# Altium integrated library NSC Legacy.IntLib: 687 symbols (part 5 of 17)
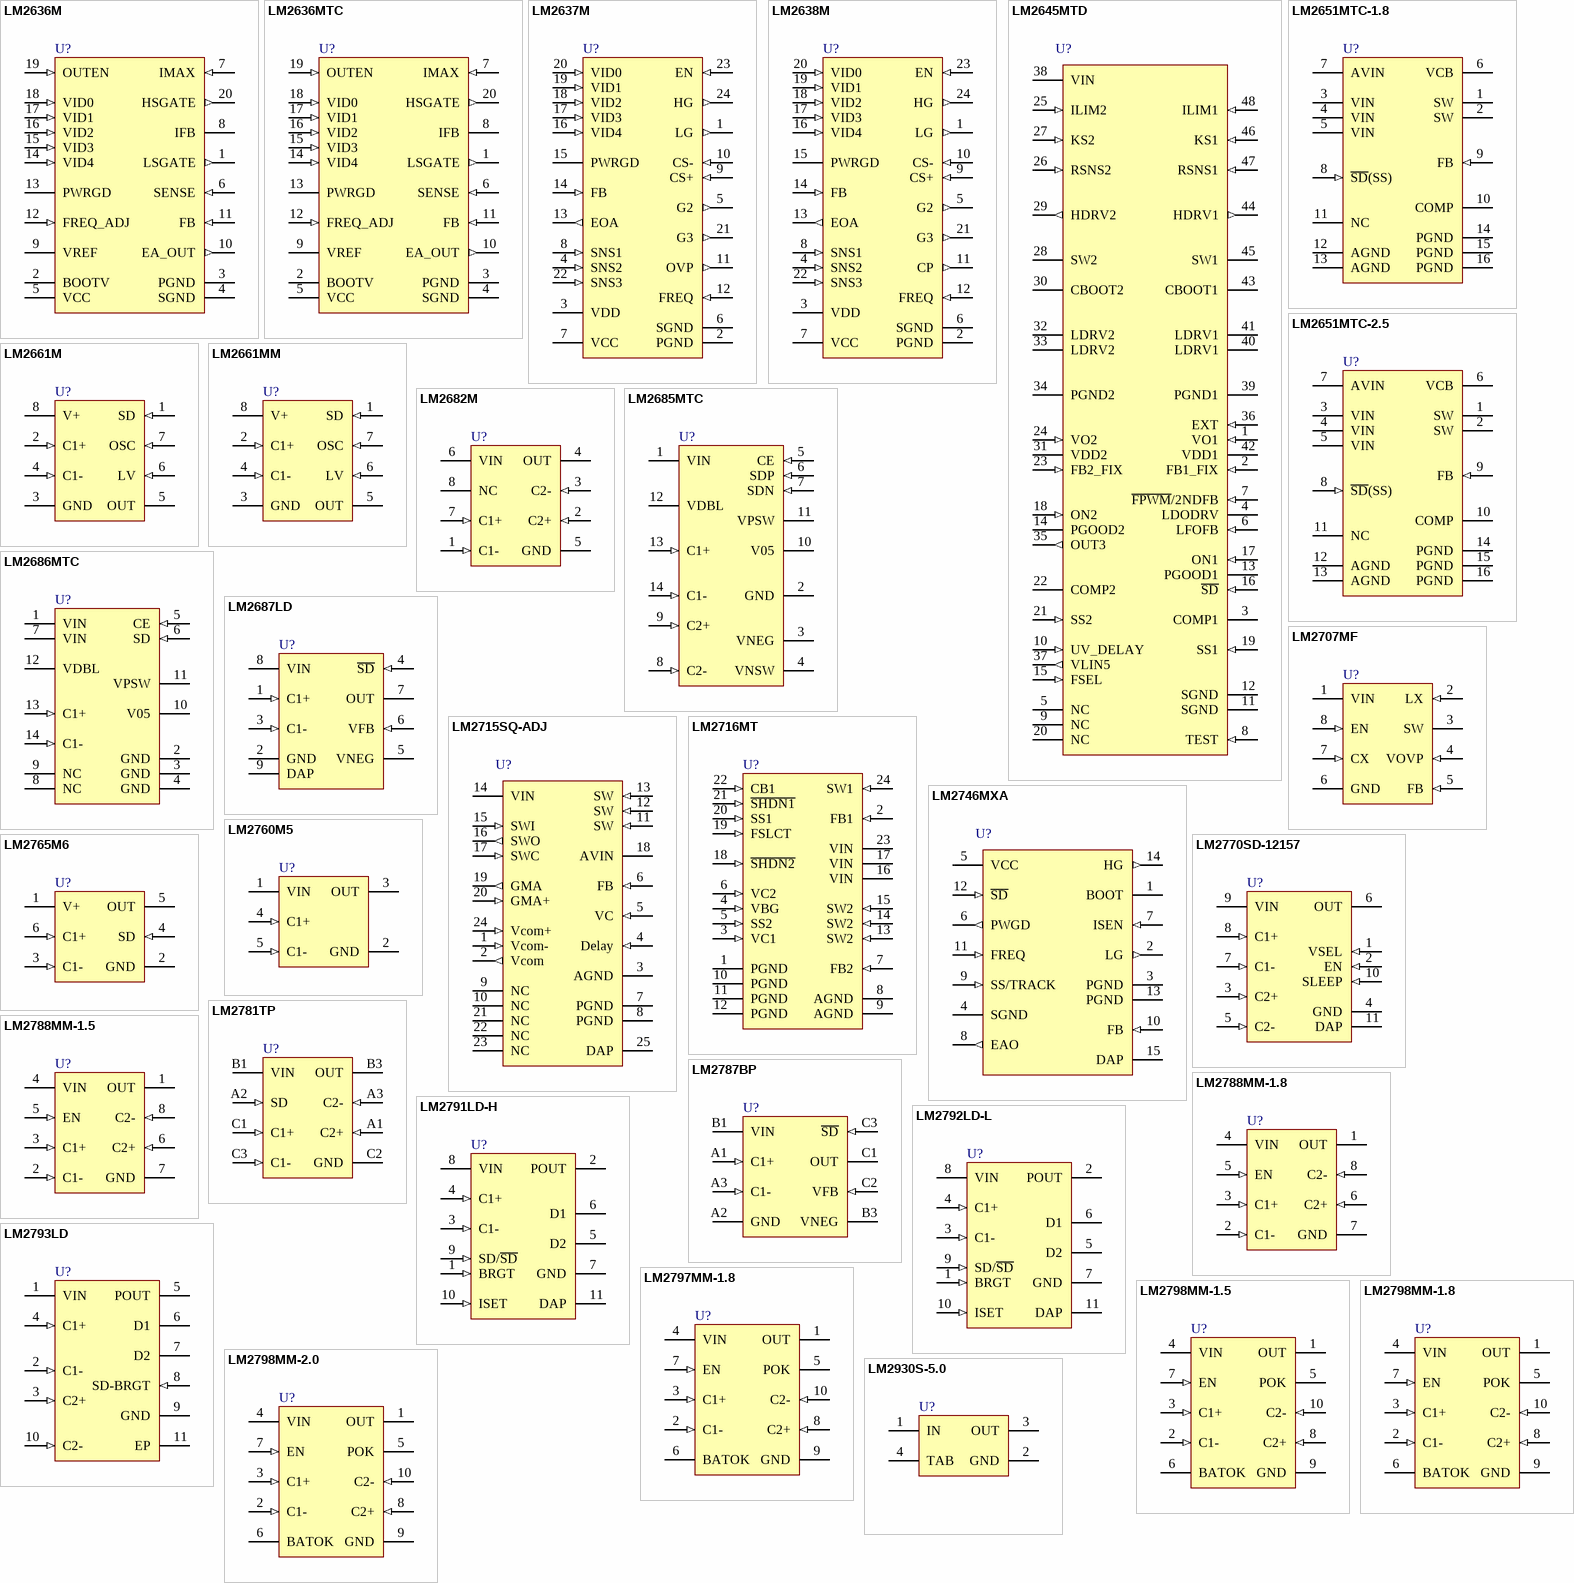
[diagram p28: symbols LM2636M to LM2930S-5.0]

## LM2636M
designator U?
5-Bit Programmable Synchronous Buck Regulator Controller, 20-pin Wide SOIC; PartNumber: LM2636M; Manufacturer: National Semiconductor; PackageTopMarking: NSUZXYTT*LM2636M; PowerWise: N; CompType: MiscPower; Published: 4-Dec-2008; DatasheetVersion: Mar-2005; PackageVersion: revG, Jan-1996; PackageReference: M20B; Publisher: Altium Limited; PackageDescription: Molded Package, S0, .300in Wide, 20 Lead; RoHS: Y; PinCount: 20; Code_JEDEC: MS-013-AC; Code_IPC: SOIC127P1030-20; ComponentLink1Description: LM2636 Datasheet; ComponentLink1URL: http://www.national.com/ds/LM/LM2636.pdf; ComponentLink2Description: LM2636 Web Page; ComponentLink2URL: http://www.national.com/pf/LM/LM2636.html; ComponentLink3Description: M20B Package Page; ComponentLink3URL: http://www.national.com/packaging/folders/m20b.html
footprint M20B_N (SOIC, 20-Leads, Body 12.8x7.5mm, Pitch 1.27mm, IPC Medium Density)
footprint M20B_L (SOIC, 20-Leads, Body 12.8x7.5mm, Pitch 1.27mm, IPC High Density)
footprint M20B_M (SOIC, 20-Leads, Body 12.8x7.5mm, Pitch 1.27mm, IPC Low Density)
pins: 1 LSGATE (out), 2 BOOTV (power), 3 PGND (power), 4 SGND (power), 5 VCC (power), 6 SENSE (in), 7 IMAX (in), 8 IFB, 9 VREF (power), 10 EA_OUT (out), 11 FB (in), 12 FREQ_ADJ (in), 13 PWRGD (power), 14 VID4 (in), 15 VID3 (in), 16 VID2 (in), 17 VID1 (in), 18 VID0 (in), 19 OUTEN (in), 20 HSGATE (out)

## LM2636MTC
designator U?
5-Bit Programmable Synchronous Buck Regulator Controller, 20-pin TSSOP; PartNumber: LM2636MTC; Manufacturer: National Semiconductor; PackageTopMarking: NSUZXYTT*LM2636*MTC; PowerWise: N; CompType: MiscPower; Published: 4-Dec-2008; DatasheetVersion: Mar-2005; PackageVersion: revE, Mar-2003; PackageReference: MTC20; Publisher: Altium Limited; PackageDescription: Molded TSSOP, Jedec, 6.5 x 4.4 x 0.9mm Body, 20 Lead, 0.65mm Pitch; Supplier 1: Farnell; Supplier Part Number 1: 3326640; RoHS: Y; PinCount: 20; Code_JEDEC: MO-153-AC; ComponentLink1Description: LM2636 Datasheet; ComponentLink1URL: http://www.national.com/ds/LM/LM2636.pdf; ComponentLink2Description: LM2636 Web Page; ComponentLink2URL: http://www.national.com/pf/LM/LM2636.html; ComponentLink3Description: MTC20 Package Page; ComponentLink3URL: http://www.national.com/packaging/folders/mtc20.html
footprint MTC20_N (TSOP, 20-Leads, Body 6.5x4.4mm, Pitch 0.65mm, IPC Medium Density)
footprint MTC20_L (TSOP, 20-Leads, Body 6.5x4.4mm, Pitch 0.65mm, IPC High Density)
footprint MTC20_M (TSOP, 20-Leads, Body 6.5x4.4mm, Pitch 0.65mm, IPC Low Density)
pins: 1 LSGATE (out), 2 BOOTV (power), 3 PGND (power), 4 SGND (power), 5 VCC (power), 6 SENSE (in), 7 IMAX (in), 8 IFB, 9 VREF (power), 10 EA_OUT (out), 11 FB (in), 12 FREQ_ADJ (in), 13 PWRGD (power), 14 VID4 (in), 15 VID3 (in), 16 VID2 (in), 17 VID1 (in), 18 VID0 (in), 19 OUTEN (in), 20 HSGATE (out)

## LM2637M
designator U?
Motherboard Power Supply Solution with a 5-Bit Programmable Switching Controller and Two Linear Regulator Controllers, 24-pin Wide SOIC; PartNumber: LM2637M; Manufacturer: National Semiconductor; PackageTopMarking: NSUZXYTT*LM2637M; CompType: MiscPower; Published: 4-Dec-2008; DatasheetVersion: Nov-2004; PackageVersion: revF, Apr-1990; PackageReference: M24B; Publisher: Altium Limited; PackageDescription: Molded Package, S.O., .300in Wide, 24 Lead; RoHS: Y; PinCount: 24; ComponentLink1Description: LM2637 Datasheet; ComponentLink1URL: http://www.national.com/ds/LM/LM2637.pdf; ComponentLink2Description: LM2637 Web Page; ComponentLink2URL: http://www.national.com/pf/LM/LM2637.html; ComponentLink3Description: M24B Package Page; ComponentLink3URL: http://www.national.com/packaging/folders/m24b.html
footprint M24B_N (SOIC, 24-Leads, Body 15.4x7.5mm, Pitch 1.27mm, IPC Medium Density)
footprint M24B_L (SOIC, 24-Leads, Body 15.4x7.5mm, Pitch 1.27mm, IPC High Density)
footprint M24B_M (SOIC, 24-Leads, Body 15.4x7.5mm, Pitch 1.27mm, IPC Low Density)
pins: 1 LG (out), 2 PGND (power), 3 VDD (power), 4 SNS2 (in), 5 G2 (out), 6 SGND (power), 7 VCC (power), 8 SNS1 (in), 9 CS+ (in), 10 CS- (in), 11 OVP (out), 12 FREQ (in), 13 EOA (out), 14 FB (in), 15 PWRGD (oc), 16 VID4 (in), 17 VID3 (in), 18 VID2 (in), 19 VID1 (in), 20 VID0 (in), 21 G3 (out), 22 SNS3 (in), 23 EN (in), 24 HG (out)

## LM2638M
designator U?
Motherboard Power Supply Solution with a 5-Bit Programmable Switching Controller and Two Linear Regulator Controllers, 24-pin Wide SOIC; PartNumber: LM2638M; Manufacturer: National Semiconductor; PackageTopMarking: NSUZXYTT*LM2638M; CompType: MiscPower; Published: 4-Dec-2008; DatasheetVersion: May-1999; PackageVersion: revF, Apr-1990; PackageReference: M24B; Publisher: Altium Limited; PackageDescription: Molded Package, S.O., .300in Wide, 24 Lead; RoHS: N; PinCount: 24; ComponentLink1Description: LM2638 Datasheet; ComponentLink1URL: http://www.national.com/ds/LM/LM2638.pdf; ComponentLink2Description: LM2638 Web Page; ComponentLink2URL: http://www.national.com/pf/LM/LM2638.html; ComponentLink3Description: M24B Package Page; ComponentLink3URL: http://www.national.com/packaging/folders/m24b.html
footprint M24B_N (SOIC, 24-Leads, Body 15.4x7.5mm, Pitch 1.27mm, IPC Medium Density)
footprint M24B_L (SOIC, 24-Leads, Body 15.4x7.5mm, Pitch 1.27mm, IPC High Density)
footprint M24B_M (SOIC, 24-Leads, Body 15.4x7.5mm, Pitch 1.27mm, IPC Low Density)
pins: 1 LG (out), 2 PGND (power), 3 VDD (power), 4 SNS2 (in), 5 G2 (out), 6 SGND (power), 7 VCC (power), 8 SNS1 (in), 9 CS+ (in), 10 CS- (in), 11 CP (out), 12 FREQ (in), 13 EOA (out), 14 FB (in), 15 PWRGD (oc), 16 VID4 (in), 17 VID3 (in), 18 VID2 (in), 19 VID1 (in), 20 VID0 (in), 21 G3 (out), 22 SNS3 (in), 23 EN (in), 24 HG (out)

## LM2645MTD
designator U?
Advanced Two-Phase Switching Controller With Two Linear Outputs, 48-pin TSSOP; PartNumber: LM2645MTD; Manufacturer: National Semiconductor; PackageTopMarking: NSUZXYTT*LM2645MTD; PowerWise: N; CompType: Switcher; Published: 4-Dec-2008; DatasheetVersion: Apr-2005; PackageVersion: revE, Apr-2003; PackageReference: MTD48; Publisher: Altium Limited; PackageDescription: Molded TSSOP, Jedec, 12.5 x 6.1 x 0.9mm Body, 48 Lead, 0.50mm Pitch; RoHS: Y; PinCount: 48; Code_JEDEC: MO-153-ED; ComponentLink1Description: LM2645 Datasheet; ComponentLink1URL: http://www.national.com/ds/LM/LM2645.pdf; ComponentLink2Description: LM2645 Web Page; ComponentLink2URL: http://www.national.com/pf/LM/LM2645.html; ComponentLink3Description: MTD48 Package Page; ComponentLink3URL: http://www.national.com/packaging/folders/mtd48.html
footprint MTD48_N (TSSOP, 48-Leads, Body 12.5x6.1mm, Pitch 0.5mm, IPC Medium Density)
footprint MTD48_L (TSSOP, 48-Leads, Body 12.5x6.1mm, Pitch 0.5mm, IPC High Density)
footprint MTD48_M (TSSOP, 48-Leads, Body 12.5x6.1mm, Pitch 0.5mm, IPC Low Density)
pins: 1 VO1 (in), 2 FB1_FIX (in), 3 COMP1, 4 LDODRV (oc), 5 NC, 6 LFOFB (in), 7 ~{FPWM}/2NDFB (in), 8 TEST (in), 9 NC, 10 UV_DELAY (in), 11 SGND (power), 12 SGND (power), 13 PGOOD1 (oc), 14 PGOOD2 (oc), 15 FSEL (in), 16 ~{SD} (in), 17 ON1 (in), 18 ON2 (in), 19 SS1 (in), 20 NC, 21 SS2 (in), 22 COMP2, 23 FB2_FIX (in), 24 VO2 (in), 25 ILIM2 (in), 26 RSNS2 (in), 27 KS2 (in), 28 SW2 (power), 29 HDRV2 (out), 30 CBOOT2, 31 VDD2 (power), 32 LDRV2 (power), 33 LDRV2 (power), 34 PGND2 (power), 35 OUT3 (out), 36 EXT (in), 37 VLIN5 (out), 38 VIN (power), 39 PGND1 (power), 40 LDRV1 (power), 41 LDRV1 (power), 42 VDD1 (power), 43 CBOOT1, 44 HDRV1 (out), 45 SW1 (power), 46 KS1 (in), 47 RSNS1 (in), 48 ILIM1 (in)

## LM2651MTC-1.8
designator U?
1.5A High Efficiency Switching Regulator, 16-pin TSSOP; PartNumber: LM2651MTC-1.8; Manufacturer: National Semiconductor; PackageTopMarking: NSZXYTT*2651MTC*-1.8; PowerWise: N; CompType: Switcher; Published: 4-Dec-2008; DatasheetVersion: Apr-2005; PackageVersion: revD, Jun-2003; PackageReference: MTC16; Publisher: Altium Limited; PackageDescription: Molded TSSOP, Jedec, 5 x 4.4 x 0.9mm Body, 16 Lead, 0.65mm Pitch; RoHS: Y; PinCount: 16; Code_JEDEC: MO-153-AB; ComponentLink1Description: LM2651 Datasheet; ComponentLink1URL: http://www.national.com/ds/LM/LM2651.pdf; ComponentLink2Description: LM2651 Web Page; ComponentLink2URL: http://www.national.com/pf/LM/LM2651.html; ComponentLink3Description: MTC16 Package Page; ComponentLink3URL: http://www.national.com/packaging/folders/mtc16.html
footprint MTC16_N (TSOP, 16-Leads, Body 5x4.4mm, Pitch 0.65mm, IPC Medium Density)
footprint MTC16_L (TSOP, 16-Leads, Body 5x4.4mm, Pitch 0.65mm, IPC High Density)
footprint MTC16_M (TSOP, 16-Leads, Body 5x4.4mm, Pitch 0.65mm, IPC Low Density)
pins: 1 SW (power), 2 SW (power), 3 VIN (power), 4 VIN (power), 5 VIN (power), 6 VCB, 7 AVIN (power), 8 ~{SD}(SS) (in), 9 FB (in), 10 COMP, 11 NC, 12 AGND (power), 13 AGND (power), 14 PGND (power), 15 PGND (power), 16 PGND (power)

## LM2651MTC-2.5
designator U?
1.5A High Efficiency Switching Regulator, 16-pin TSSOP; PartNumber: LM2651MTC-2.5; Manufacturer: National Semiconductor; PackageTopMarking: NSZXYTT*2651MTC*-2.5; PowerWise: N; CompType: Switcher; Published: 4-Dec-2008; DatasheetVersion: Apr-2005; PackageVersion: revD, Jun-2003; PackageReference: MTC16; Publisher: Altium Limited; PackageDescription: Molded TSSOP, Jedec, 5 x 4.4 x 0.9mm Body, 16 Lead, 0.65mm Pitch; RoHS: O; PinCount: 16; Code_JEDEC: MO-153-AB; ComponentLink1Description: LM2651 Datasheet; ComponentLink1URL: http://www.national.com/ds/LM/LM2651.pdf; ComponentLink2Description: LM2651 Web Page; ComponentLink2URL: http://www.national.com/pf/LM/LM2651.html; ComponentLink3Description: MTC16 Package Page; ComponentLink3URL: http://www.national.com/packaging/folders/mtc16.html
footprint MTC16_N (TSOP, 16-Leads, Body 5x4.4mm, Pitch 0.65mm, IPC Medium Density)
footprint MTC16_L (TSOP, 16-Leads, Body 5x4.4mm, Pitch 0.65mm, IPC High Density)
footprint MTC16_M (TSOP, 16-Leads, Body 5x4.4mm, Pitch 0.65mm, IPC Low Density)
pins: 1 SW (power), 2 SW (power), 3 VIN (power), 4 VIN (power), 5 VIN (power), 6 VCB, 7 AVIN (power), 8 ~{SD}(SS) (in), 9 FB (in), 10 COMP, 11 NC, 12 AGND (power), 13 AGND (power), 14 PGND (power), 15 PGND (power), 16 PGND (power)

## LM2661M
designator U?
Switched Capacitor Voltage Converter, 8-pin Narrow SOIC; PartNumber: LM2661M; Manufacturer: National Semiconductor; PackageTopMarking: NSZXTT*LM26*61M; PowerWise: N; CompType: Switch Caps; Published: 4-Dec-2008; DatasheetVersion: Sep-1999; PackageVersion: revM, May-2009; PackageReference: M08A; Publisher: Altium Limited; PackageDescription: SOIC Narrow, 4.9 x 3.9 x 1.45mm, 8 Lead, 1.27mm Pitch; Supplier 1: Farnell; Supplier Part Number 1: 688071; RoHS: O; PinCount: 8; Code_JEDEC: MS-012-AA; Code_IPC: SOIC127P600-8; ComponentLink1Description: LM2661 Datasheet; ComponentLink1URL: http://www.national.com/ds/LM/LM2661.pdf; ComponentLink2Description: LM2661 Web Page; ComponentLink2URL: http://www.national.com/pf/LM/LM2661.html; ComponentLink3Description: M08A Package Page; ComponentLink3URL: http://www.national.com/packaging/folders/m08a.html
footprint M08A_N (SOIC, 8-Leads, Body 4.9x3.9mm, Pitch 1.27mm, IPC Medium Density)
footprint M08A_L (SOIC, 8-Leads, Body 4.9x3.9mm, Pitch 1.27mm, IPC High Density)
footprint M08A_M (SOIC, 8-Leads, Body 4.9x3.9mm, Pitch 1.27mm, IPC Low Density)
pins: 1 SD (in), 2 C1+ (in), 3 GND (power), 4 C1- (in), 5 OUT (power), 6 LV (in), 7 OSC (in), 8 V+ (power)

## LM2661MM
designator U?
Switched Capacitor Voltage Converter, 8-pin Mini SOIC; PartNumber: LM2661MM; Manufacturer: National Semiconductor; PackageTopMarking: ZXTT*S02A; PowerWise: N; CompType: Switch Caps; Published: 4-Dec-2008; DatasheetVersion: Sep-1999; PackageVersion: revF, Apr-2008; PackageReference: MUA08A; Publisher: Altium Limited; PackageDescription: MINI SOIC, .118 x .118 x .034in, 8 Lead, .0256in Pitch; RoHS: O; PinCount: 8; Code_JEDEC: MO-187-AA; ComponentLink1Description: LM2661 Datasheet; ComponentLink1URL: http://www.national.com/ds/LM/LM2661.pdf; ComponentLink2Description: LM2661 Web Page; ComponentLink2URL: http://www.national.com/pf/LM/LM2661.html; ComponentLink3Description: MUA08A Package Page; ComponentLink3URL: http://www.national.com/packaging/folders/mua08a.html
footprint MUA08A_N (TSOP, 8-Leads, Body 3x3mm, Pitch 0.65mm, IPC Medium Density)
footprint MUA08A_L (TSOP, 8-Leads, Body 3x3mm, Pitch 0.65mm, IPC High Density)
footprint MUA08A_M (TSOP, 8-Leads, Body 3x3mm, Pitch 0.65mm, IPC Low Density)
pins: 1 SD (in), 2 C1+ (in), 3 GND (power), 4 C1- (in), 5 OUT (power), 6 LV (in), 7 OSC (in), 8 V+ (power)

## LM2682M
designator U?
Switched Capacitor Voltage Doubling Inverter, 8-pin Narrow SOIC; PartNumber: LM2682M; Manufacturer: National Semiconductor; PackageTopMarking: NSZXTT*LM26*82M; CompType: Switch Caps; Published: 4-Dec-2008; DatasheetVersion: Nov-1999; PackageVersion: revM, May-2009; PackageReference: M08A; Publisher: Altium Limited; PackageDescription: SOIC Narrow, 4.9 x 3.9 x 1.45mm, 8 Lead, 1.27mm Pitch; RoHS: Y; PinCount: 8; Code_JEDEC: MS-012-AA; Code_IPC: SOIC127P600-8; ComponentLink1Description: LM2682 Datasheet; ComponentLink1URL: http://www.national.com/ds/LM/LM2682.pdf; ComponentLink2Description: LM2682 Web Page; ComponentLink2URL: http://www.national.com/pf/LM/LM2682.html; ComponentLink3Description: M08A Package Page; ComponentLink3URL: http://www.national.com/packaging/folders/m08a.html
footprint M08A_N (SOIC, 8-Leads, Body 4.9x3.9mm, Pitch 1.27mm, IPC Medium Density)
footprint M08A_L (SOIC, 8-Leads, Body 4.9x3.9mm, Pitch 1.27mm, IPC High Density)
footprint M08A_M (SOIC, 8-Leads, Body 4.9x3.9mm, Pitch 1.27mm, IPC Low Density)
pins: 1 C1- (in), 2 C2+ (in), 3 C2- (in), 4 OUT (power), 5 GND (power), 6 VIN (power), 7 C1+ (in), 8 NC

## LM2685MTC
designator U?
Dual Output Regulated Switched Capacitor Voltage Converter, 14-pin TSSOP; PartNumber: LM2685MTC; Manufacturer: National Semiconductor; PackageTopMarking: NSXYTT*LM2685*MTC; PowerWise: N; CompType: Switch Caps; Published: 4-Dec-2008; DatasheetVersion: May-2000; PackageVersion: revD, Jun-2003; PackageReference: MTC14; Publisher: Altium Limited; PackageDescription: Molded TSSOP, JEDEC, 5 x 4.4 x 0.9mm Body, 14 Lead, 0.65mm Pitch; Supplier 1: Farnell; Supplier Part Number 1: 9778691; RoHS: Y; PinCount: 14; Code_JEDEC: MO-153-AB-1; ComponentLink1Description: LM2685 Datasheet; ComponentLink1URL: http://www.national.com/ds/LM/LM2685.pdf; ComponentLink2Description: LM2685 Web Page; ComponentLink2URL: http://www.national.com/pf/LM/LM2685.html; ComponentLink3Description: MTC14 Package Page; ComponentLink3URL: http://www.national.com/packaging/folders/mtc14.html
footprint MTC14_N (TSOP, 14-Leads, Body 5x4.4mm, Pitch 0.65mm, IPC Medium Density)
footprint MTC14_L (TSOP, 14-Leads, Body 5x4.4mm, Pitch 0.65mm, IPC High Density)
footprint MTC14_M (TSOP, 14-Leads, Body 5x4.4mm, Pitch 0.65mm, IPC Low Density)
pins: 1 VIN (power), 2 GND (power), 3 VNEG (power), 4 VNSW (power), 5 CE (in), 6 SDP (in), 7 SDN (in), 8 C2- (in), 9 C2+ (in), 10 V05 (power), 11 VPSW (power), 12 VDBL (power), 13 C1+ (in), 14 C1- (in)

## LM2686MTC
designator U?
Regulated Switched Capacitor Voltage Converter, 14-pin TSSOP; PartNumber: LM2686MTC; Manufacturer: National Semiconductor; PackageTopMarking: NSXYTT*LM2686*MTC; PowerWise: N; CompType: Switch Caps; Published: 4-Dec-2008; DatasheetVersion: Nov-1999; PackageVersion: revD, Jun-2003; PackageReference: MTC14; Publisher: Altium Limited; PackageDescription: Molded TSSOP, JEDEC, 5 x 4.4 x 0.9mm Body, 14 Lead, 0.65mm Pitch; Supplier 1: Farnell; Supplier Part Number 1: 9778616; RoHS: Y; PinCount: 14; Code_JEDEC: MO-153-AB-1; ComponentLink1Description: LM2686 Datasheet; ComponentLink1URL: http://www.national.com/ds/LM/LM2686.pdf; ComponentLink2Description: LM2686 Web Page; ComponentLink2URL: http://www.national.com/pf/LM/LM2686.html; ComponentLink3Description: MTC14 Package Page; ComponentLink3URL: http://www.national.com/packaging/folders/mtc14.html
footprint MTC14_N (TSOP, 14-Leads, Body 5x4.4mm, Pitch 0.65mm, IPC Medium Density)
footprint MTC14_L (TSOP, 14-Leads, Body 5x4.4mm, Pitch 0.65mm, IPC High Density)
footprint MTC14_M (TSOP, 14-Leads, Body 5x4.4mm, Pitch 0.65mm, IPC Low Density)
pins: 1 VIN (power), 2 GND (power), 3 GND (power), 4 GND (power), 5 CE (in), 6 SD (in), 7 VIN (power), 8 NC, 9 NC, 10 V05 (power), 11 VPSW (power), 12 VDBL (power), 13 C1+ (in), 14 C1- (in)

## LM2687LD
designator U?
Low Noise Regulated Switched Capacitor Voltage Inverter, 9-pin LLP; PartNumber: LM2687LD; Manufacturer: National Semiconductor; PackageTopMarking: ZXYTT*L050B; CompType: Switch Caps; Published: 4-Dec-2008; DatasheetVersion: Apr-2003; PackageVersion: revC, Nov-2002; PackageReference: LDA08A; Publisher: Altium Limited; PackageDescription: LLP, Plastic, Dual, 3 x 3 x 0.75mm Body, 8 Lead, 0.5mm Pitch; RoHS: Y; PinCount: 8; ComponentLink1Description: LM2687 Datasheet; ComponentLink1URL: http://www.national.com/ds/LM/LM2687.pdf; ComponentLink2Description: LM2687 Web Page; ComponentLink2URL: http://www.national.com/pf/LM/LM2687.html; ComponentLink3Description: LDA08A Package Page; ComponentLink3URL: http://www.national.com/packaging/folders/lda08a.html
footprint LDA08A (PSON, 8-Leads, Body 3x3mm, Pitch 0.5mm, NSC Recommended)
pins: 1 C1+ (in), 2 GND (power), 3 C1- (in), 4 ~{SD} (in), 5 VNEG (power), 6 VFB (in), 7 OUT (power), 8 VIN (power), 9 DAP (power)

## LM2707MF
designator U?
Inductive-Boost Series LED Driver with Programmable Oscillator Frequency, 8-pin SOT-23; PartNumber: LM2707MF; Manufacturer: National Semiconductor; PackageTopMarking: S0TB*XTT; CompType: MiscPower; Published: 4-Dec-2008; DatasheetVersion: Feb-2005; PackageVersion: revA, Nov-2003; PackageReference: MF08A; Publisher: Altium Limited; PackageDescription: Molded SOT-23, 3.5 x 2.2 x 1.2mm Body, 8 Lead, 0.8mm Pitch; Supplier 1: Farnell; Supplier Part Number 1: 1226776; RoHS: Y; PinCount: 8; ComponentLink1Description: LM2707 Datasheet; ComponentLink1URL: http://www.national.com/ds/LM/LM2707.pdf; ComponentLink2Description: LM2707 Web Page; ComponentLink2URL: http://www.national.com/pf/LM/LM2707.html; ComponentLink3Description: MF08A Package Page; ComponentLink3URL: http://www.national.com/packaging/folders/mf08a.html
footprint MF08A_N (SOP, 8-Leads, Body 3.5x2.2mm, Pitch 0.8mm, IPC Medium Density)
footprint MF08A_L (SOP, 8-Leads, Body 3.5x2.2mm, Pitch 0.8mm, IPC High Density)
footprint MF08A_M (SOP, 8-Leads, Body 3.5x2.2mm, Pitch 0.8mm, IPC Low Density)
pins: 1 VIN (power), 2 LX (in), 3 SW (power), 4 VOVP (in), 5 FB (in), 6 GND (power), 7 CX (in), 8 EN (in)

## LM2715SQ-ADJ
designator U?
TFT Panel Module, 24-pin LLP; PartNumber: LM2715SQ-ADJ; Manufacturer: National Semiconductor; PackageTopMarking: NS*UZXYTT*L2715SQ; PowerWise: N; CompType: MiscPower; Published: 4-Dec-2008; DatasheetVersion: Apr-2006; PackageVersion: revA, Oct-2003; PackageReference: SQA24B; Publisher: Altium Limited; PackageDescription: LLP, Plastic, Quad, 5 x 4 x 0.8mm Body, 24 Lead, 0.5mm Pitch, No Pullback; RoHS: Y; PinCount: 24; Code_JEDEC: MO-220-WGHD-1; ComponentLink1Description: LM2715 Datasheet; ComponentLink1URL: http://www.national.com/ds/LM/LM2715.pdf; ComponentLink2Description: LM2715 Web Page; ComponentLink2URL: http://www.national.com/pf/LM/LM2715.html; ComponentLink3Description: SQA24B Package Page; ComponentLink3URL: http://www.national.com/packaging/folders/sqa24b.html
footprint SQA24B (QFN, 24-Leads, Body 5x4mm, Pitch 0.5mm, NSC Recommended)
pins: 1 Vcom- (in) "Vcom Amplifier negative input.", 2 Vcom (out) "Vcom Amplifier output.", 3 AGND (power) "Analog Ground. Connect to AGND plane.", 4 Delay (in) "PMOS switch delay.", 5 VC (in) "Boost Compensation Network Connection.", 6 FB (in) "Output Voltage Feedback input.", 7 PGND (power) "Power Ground. Connect to PGND plane.", 8 PGND (power) "Power Ground. Connect to PGND plane.", 9 NC "Not internally connected. Leave floating or connect to Ground.", 10 NC "Not internally connected. Leave floating or connect to Ground.", 11 SW (in) "NMOS power switch input.", 12 SW (in) "NMOS power switch input.", 13 SW (in) "NMOS power switch input.", 14 VIN (power) "Main power input, step-up and switch circuitry.", 15 SWI (in) "PMOS switch input.", 16 SWO (out) "PMOS switch output.", 17 SWC (in) "PMOS switch control pin.", 18 AVIN (power) "Analog power input (buffers).", 19 GMA (out) "Gamma buffer output.", 20 GMA+ (in) "Gamma buffer input.", 21 NC "Not internally connected. Leave floating or connect to Ground.", 22 NC "Not internally connected. Leave floating or connect to Ground.", 23 NC "Not internally connected. Leave floating or connect to Ground.", 24 Vcom+ (in) "Vcom Amplifier positive input.", 25 DAP (power) "Center Die Attach Pad. Connect directly to AGND and PGND pins beneath the device."

## LM2716MT
designator U?
Dual (Step-Up and Step-Down) PWM DC/DC Converter, 24-pin TSSOP; PartNumber: LM2716MT; Manufacturer: National Semiconductor; PackageTopMarking: NSUZXYTT*LM2716MT; CompType: MiscPower; Published: 4-Dec-2008; DatasheetVersion: Nov-2005; PackageVersion: revE, Mar-2003; PackageReference: MTC24; Publisher: Altium Limited; PackageDescription: Molded TSSOP, Jedec, 7.8 x 4.4 x 0.9mm Body, 24 Lead, 0.65mm Pitch; Supplier 1: Farnell; Supplier Part Number 1: 8181624; RoHS: Y; PinCount: 24; Code_JEDEC: MO-153-AD; ComponentLink1Description: LM2716 Datasheet; ComponentLink1URL: http://www.national.com/ds/LM/LM2716.pdf; ComponentLink2Description: LM2716 Web Page; ComponentLink2URL: http://www.national.com/pf/LM/LM2716.html; ComponentLink3Description: MTC24 Package Page; ComponentLink3URL: http://www.national.com/packaging/folders/mtc24.html
footprint MTC24_N (TSOP, 24-Leads, Body 7.8x4.4mm, Pitch 0.65mm, IPC Medium Density)
footprint MTC24_L (TSOP, 24-Leads, Body 7.8x4.4mm, Pitch 0.65mm, IPC High Density)
footprint MTC24_M (TSOP, 24-Leads, Body 7.8x4.4mm, Pitch 0.65mm, IPC Low Density)
pins: 1 PGND (power) "Power ground. AGND and PGND pins must be connected together directly at the part.", 2 FB1 (in) "Buck output voltage feedback input.", 3 VC1 (in) "Buck compensation network connection. Connected to the output of the voltage error amplifier.", 4 VBG (in) "Bandgap connection.", 5 SS2 (in) "Boost soft start pin.", 6 VC2 (in) "Boost compensation network connection. Connected to the output of the voltage error amplifier.", 7 FB2 (in) "Boost output voltage feedback input.", 8 AGND (power) "Analog ground. AGND and PGND pins must be connected together directly at the part.", 9 AGND (power) "Analog ground. AGND and PGND pins must be connected together directly at the part.", 10 PGND (power) "Power ground. AGND and PGND pins must be connected together directly at the part.", 11 PGND (power) "Power ground. AGND and PGND pins must be connected together directly at the part.", 12 PGND (power) "Power ground. AGND and PGND pins must be connected together directly at the part.", 13 SW2 (in) "Boost power switch input.", 14 SW2 (in) "Boost power switch input.", 15 SW2 (in) "Boost power switch input.", 16 VIN (power) "Analog power input. VIN pins must be connected together directly at the DUT.", 17 VIN (power) "Analog power input. VIN pins must be connected together directly at the DUT.", 18 ~{SHDN2} (in) "Shutdown pin for Boost converter. Active low.", 19 FSLCT (in) "Switching frequency select input.", 20 SS1 (in) "Buck soft start pin.", 21 ~{SHDN1} (in) "Shutdown pin for Buck converter. Active low.", 22 CB1 (in) "Buck converter bootstrap capacitor connection.", 23 VIN (power) "Analog power input. VIN pins must be connected together directly at the DUT.", 24 SW1 (in) "Buck power switch input. Switch connected between VIN pins and SW1 pin."

## LM2746MXA
designator U?
Low Voltage N-Channel MOSFET Synchronous Buck Regulator Controller, 14-pin TSSOP-EP; PartNumber: LM2746MXA; Manufacturer: National Semiconductor; PackageTopMarking: NSUZXYTT*L2746*MX; PowerWise: Y; CompType: Switcher; Published: 4-Dec-2008; DatasheetVersion: May-2005; PackageVersion: revA, Feb-2003; PackageReference: MXA14A; Publisher: Altium Limited; PackageDescription: Molded TSSOP, JEDEC, Exposed Pad, 5.0 x 4.4 x 0.9mm Body, 14 Lead, 0.65mm Pitch; RoHS: Y; PinCount: 14; Code_JEDEC: MO-153-ABT-1; ComponentLink1Description: LM2746 Datasheet; ComponentLink1URL: http://www.national.com/ds/LM/LM2746.pdf; ComponentLink2Description: LM2746 Web Page; ComponentLink2URL: http://www.national.com/pf/LM/LM2746.html; ComponentLink3Description: MXA14A Package Page; ComponentLink3URL: http://www.national.com/packaging/folders/mxa14a.html
footprint MXA14A_N (TSOP, 14-Leads, Body 5x4.4mm, Pitch 0.65mm, Exposed Pad, IPC Medium Density)
footprint MXA14A_L (TSOP, 14-Leads, Body 5x4.4mm, Pitch 0.65mm, Exposed Pad, IPC High Density)
footprint MXA14A_M (TSOP, 14-Leads, Body 5x4.4mm, Pitch 0.65mm, Exposed Pad, IPC Low Density)
pins: 1 BOOT, 2 LG (out), 3 PGND (power), 4 SGND (power), 5 VCC (power), 6 PWGD (out), 7 ISEN (in), 8 EAO (out), 9 SS/TRACK (in), 10 FB (in), 11 FREQ (in), 12 ~{SD} (in), 13 PGND (power), 14 HG (out), 15 DAP (power)

## LM2760M5
designator U?
3.3V Regulated Switched Capacitor Voltage Converter, 5-pin SOT-23; PartNumber: LM2760M5; Manufacturer: National Semiconductor; PackageTopMarking: S19B*XTT; CompType: Switch Caps; Published: 4-Dec-2008; DatasheetVersion: Dec-2002; PackageVersion: revD, Aug-2008; PackageReference: MF05A; Publisher: Altium Limited; PackageDescription: Molded SOT-23, .115 x .063 x .040 in Body, 5 Lead, .0375 in Pitch; Supplier 1: Farnell; Supplier Part Number 1: 1312691; RoHS: Y; PinCount: 5; ComponentLink1Description: LM2760 Datasheet; ComponentLink1URL: http://www.national.com/ds/LM/LM2760.pdf; ComponentLink2Description: LM2760 Web Page; ComponentLink2URL: http://www.national.com/pf/LM/LM2760.html; ComponentLink3Description: MF05A Package Page; ComponentLink3URL: http://www.national.com/packaging/folders/mf05a.html
footprint MF05A_N (SOT23, 5-Leads, Body 2.9x1.6mm, Pitch 0.95mm, Lead Span 2.8mm, IPC Medium Density)
footprint MF05A_L (SOT23, 5-Leads, Body 2.9x1.6mm, Pitch 0.95mm, Lead Span 2.8mm, IPC High Density)
footprint MF05A_M (SOT23, 5-Leads, Body 2.9x1.6mm, Pitch 0.95mm, Lead Span 2.8mm, IPC Low Density)
pins: 1 VIN (power), 2 GND (power), 3 OUT (power), 4 C1+ (in), 5 C1- (in)

## LM2765M6
designator U?
Switched Capacitor Voltage Converter, 6-pin SOT-23; PartNumber: LM2765M6; Manufacturer: National Semiconductor; PackageTopMarking: S15B*XTT; CompType: Switch Caps; Published: 4-Dec-2008; DatasheetVersion: Mar-2000; PackageVersion: revC, Sep-2005; PackageReference: MF06A; Publisher: Altium Limited; PackageDescription: Molded SOT-23, .115 x .063 x .040in Body, 6 Lead, .0375in in Pitch; RoHS: O; PinCount: 6; Code_JEDEC: MO-178-AB; Code_IPC: SOT26A-6; ComponentLink1Description: LM2765 Datasheet; ComponentLink1URL: http://www.national.com/ds/LM/LM2765.pdf; ComponentLink2Description: LM2765 Web Page; ComponentLink2URL: http://www.national.com/pf/LM/LM2765.html; ComponentLink3Description: MF06A Package Page; ComponentLink3URL: http://www.national.com/packaging/folders/mf06a.html
footprint MF06A_N (SOT23, 6-Leads, Body 2.9x1.6mm, Pitch 0.95mm, Lead Span 2.8mm, IPC Medium Density)
footprint MF06A_L (SOT23, 6-Leads, Body 2.9x1.6mm, Pitch 0.95mm, Lead Span 2.8mm, IPC High Density)
footprint MF06A_M (SOT23, 6-Leads, Body 2.9x1.6mm, Pitch 0.95mm, Lead Span 2.8mm, IPC Low Density)
pins: 1 V+ (power), 2 GND (power), 3 C1- (in), 4 SD (in), 5 OUT (power), 6 C1+ (in)

## LM2770SD-12157
designator U?
High Efficiency Switched Capacitor Step-Down DC/DC Regulator with Sleep Mode, 11-pin LLP; PartNumber: LM2770SD-12157; Manufacturer: National Semiconductor; PackageTopMarking: ZXYTT*L166B; CompType: Switch Caps; Published: 4-Dec-2008; DatasheetVersion: Dec-2004; PackageVersion: revA, Oct-2003; PackageReference: SDA10A; Publisher: Altium Limited; PackageDescription: LLP, Plastic, Dual, 3 x 3 x 0.8mm Body, 10 Lead, 0.5mm Pitch, No Pullback; Supplier 1: Farnell; Supplier Part Number 1: 1312693; RoHS: Y; PinCount: 10; ComponentLink1Description: LM2770 Datasheet; ComponentLink1URL: http://www.national.com/ds/LM/LM2770.pdf; ComponentLink2Description: LM2770 Web Page; ComponentLink2URL: http://www.national.com/pf/LM/LM2770.html; ComponentLink3Description: SDA10A Package Page; ComponentLink3URL: http://www.national.com/packaging/folders/sda10a.html
footprint SDA10A (SON, 10-Leads, Body 3x3 mm, Pitch 0.5mm, NSC Recommended)
pins: 1 VSEL (in), 2 EN (in), 3 C2+ (in), 4 GND (power), 5 C2- (in), 6 OUT (power), 7 C1- (in), 8 C1+ (in), 9 VIN (power), 10 SLEEP (in), 11 DAP (power)

## LM2781TP
designator U?
Ultra-Low Ripple Switched Capacitor Voltage Inverter, 8-pin Micro SMD; PartNumber: LM2781TP; Manufacturer: National Semiconductor; PackageTopMarking: XV*I 12; PowerWise: N; CompType: Switch Caps; Published: 4-Dec-2008; DatasheetVersion: Mar-2003; PackageVersion: revA, Mar-2002; PackageReference: TPA08DDA; Publisher: Altium Limited; PackageDescription: Thin Micro SMD, 8 Bump, 0.5mm Pitch; Supplier 1: Farnell; Supplier Part Number 1: 1286852; RoHS: O; PinCount: 8; Code_JEDEC: MO-211-BC; ComponentLink1Description: LM2781 Datasheet; ComponentLink1URL: http://www.national.com/ds/LM/LM2781.pdf; ComponentLink2Description: LM2781 Web Page; ComponentLink2URL: http://www.national.com/pf/LM/LM2781.html; ComponentLink3Description: TPA08DDA Package Page; ComponentLink3URL: http://www.national.com/packaging/folders/tpa08dda.html
footprint TPA08DDA (Micro SMD, 8-Leads, Body 1.36x1.36mm, Pitch 0.5mm, NSC Recommended)
pins: A1 C2+ (in), A2 SD (in), A3 C2- (in), B1 VIN (power), B3 OUT (power), C1 C1+ (in), C2 GND (power), C3 C1- (in)

## LM2787BP
designator U?
Low Noise Regulated Switched Capacitor Voltage Inverter, 8-pin Micro SMD; PartNumber: LM2787BP; Manufacturer: National Semiconductor; PackageTopMarking: XVS*I 8; CompType: Switch Caps; Published: 4-Dec-2008; DatasheetVersion: Apr-2003; PackageVersion: revC, Feb-2002; PackageReference: BPA08CCB; Publisher: Altium Limited; PackageDescription: Micro SMD, 8 Bump, 0.5mm Pitch; Supplier 1: Farnell; Supplier Part Number 1: 1286853; RoHS: N; PinCount: 8; Code_JEDEC: MO-211-BC; ComponentLink1Description: LM2787 Datasheet; ComponentLink1URL: http://www.national.com/ds/LM/LM2787.pdf; ComponentLink2Description: LM2787 Web Page; ComponentLink2URL: http://www.national.com/pf/LM/LM2787.html; ComponentLink3Description: BPA08CCB Package Page; ComponentLink3URL: http://www.national.com/packaging/folders/bpa08ccb.html
footprint BPA08CCB (Micro SMD, 8-Leads, Body 1.34x1.34mm, Pitch 0.5mm, NSC Recommended)
pins: A1 C1+ (in), A2 GND (power), A3 C1- (in), B1 VIN (power), B3 VNEG (power), C1 OUT (power), C2 VFB (in), C3 ~{SD} (in)

## LM2788MM-1.5
designator U?
120mA High Efficiency Step-Down Switched Capacitor Voltage Converter, 8-pin Mini SOIC; PartNumber: LM2788MM-1.5; Manufacturer: National Semiconductor; PackageTopMarking: ZXTT*S30B; CompType: Switch Caps; Published: 4-Dec-2008; DatasheetVersion: Oct-2002; PackageVersion: revF, Apr-2008; PackageReference: MUA08A; Publisher: Altium Limited; PackageDescription: MINI SOIC, .118 x .118 x .034in, 8 Lead, .0256in Pitch; Supplier 1: Farnell; Supplier Part Number 1: 1312695; RoHS: Y; PinCount: 8; Code_JEDEC: MO-187-AA; ComponentLink1Description: LM2788 Datasheet; ComponentLink1URL: http://www.national.com/ds/LM/LM2788.pdf; ComponentLink2Description: LM2788 Web Page; ComponentLink2URL: http://www.national.com/pf/LM/LM2788.html; ComponentLink3Description: MUA08A Package Page; ComponentLink3URL: http://www.national.com/packaging/folders/mua08a.html
footprint MUA08A_N (TSOP, 8-Leads, Body 3x3mm, Pitch 0.65mm, IPC Medium Density)
footprint MUA08A_L (TSOP, 8-Leads, Body 3x3mm, Pitch 0.65mm, IPC High Density)
footprint MUA08A_M (TSOP, 8-Leads, Body 3x3mm, Pitch 0.65mm, IPC Low Density)
pins: 1 OUT (power), 2 C1- (in), 3 C1+ (in), 4 VIN (power), 5 EN (in), 6 C2+ (in), 7 GND (power), 8 C2- (in)

## LM2788MM-1.8
designator U?
120mA High Efficiency Step-Down Switched Capacitor Voltage Converter, 8-pin Mini SOIC; PartNumber: LM2788MM-1.8; Manufacturer: National Semiconductor; PackageTopMarking: ZXTT*S23B; CompType: Switch Caps; Published: 4-Dec-2008; DatasheetVersion: Oct-2002; PackageVersion: revF, Apr-2008; PackageReference: MUA08A; Publisher: Altium Limited; PackageDescription: MINI SOIC, .118 x .118 x .034in, 8 Lead, .0256in Pitch; Supplier 1: Farnell; Supplier Part Number 1: 1312696; RoHS: Y; PinCount: 8; Code_JEDEC: MO-187-AA; ComponentLink1Description: LM2788 Datasheet; ComponentLink1URL: http://www.national.com/ds/LM/LM2788.pdf; ComponentLink2Description: LM2788 Web Page; ComponentLink2URL: http://www.national.com/pf/LM/LM2788.html; ComponentLink3Description: MUA08A Package Page; ComponentLink3URL: http://www.national.com/packaging/folders/mua08a.html
footprint MUA08A_N (TSOP, 8-Leads, Body 3x3mm, Pitch 0.65mm, IPC Medium Density)
footprint MUA08A_L (TSOP, 8-Leads, Body 3x3mm, Pitch 0.65mm, IPC High Density)
footprint MUA08A_M (TSOP, 8-Leads, Body 3x3mm, Pitch 0.65mm, IPC Low Density)
pins: 1 OUT (power), 2 C1- (in), 3 C1+ (in), 4 VIN (power), 5 EN (in), 6 C2+ (in), 7 GND (power), 8 C2- (in)

## LM2791LD-H
designator U?
Current Regulated Switched Capacitor LED Driver with Analog Brightness Control, 11-pin LLP; PartNumber: LM2791LD-H; Manufacturer: National Semiconductor; PackageTopMarking: ZXYTT*SLB; CompType: Switch Caps; Published: 4-Dec-2008; DatasheetVersion: Jul-2002; PackageVersion: revB, Jan-2003; PackageReference: LDA10A; Publisher: Altium Limited; PackageDescription: LLP, Plastic, Dual, 3 x 3 x 0.75mm Body, 10 Lead, 0.5mm Pitch; RoHS: Y; PinCount: 10; ComponentLink1Description: LM2791 Datasheet; ComponentLink1URL: http://www.national.com/ds/LM/LM2791.pdf; ComponentLink2Description: LM2791 Web Page; ComponentLink2URL: http://www.national.com/pf/LM/LM2791.html; ComponentLink3Description: LDA10A Package Page; ComponentLink3URL: http://www.national.com/packaging/folders/lda10a.html
footprint LDA10A (PSON, 10-Leads, Body 3x3mm, Pitch 0.5mm, NSC Recommended)
pins: 1 BRGT (in), 2 POUT (power), 3 C1- (in), 4 C1+ (in), 5 D2 (oc), 6 D1 (oc), 7 GND (power), 8 VIN (power), 9 SD/~{SD} (in), 10 ISET (in), 11 DAP (power)

## LM2792LD-L
designator U?
Current Regulated Switched Capacitor LED Driver with Analog Brightness Control, 11-pin LLP; PartNumber: LM2792LD-L; Manufacturer: National Semiconductor; PackageTopMarking: ZXYTT*SRB; CompType: Switch Caps; Published: 4-Dec-2008; DatasheetVersion: Jul-2002; PackageVersion: revB, Jan-2003; PackageReference: LDA10A; Publisher: Altium Limited; PackageDescription: LLP, Plastic, Dual, 3 x 3 x 0.75mm Body, 10 Lead, 0.5mm Pitch; RoHS: Y; PinCount: 10; ComponentLink1Description: LM2792 Datasheet; ComponentLink1URL: http://www.national.com/ds/LM/LM2792.pdf; ComponentLink2Description: LM2792 Web Page; ComponentLink2URL: http://www.national.com/pf/LM/LM2792.html; ComponentLink3Description: LDA10A Package Page; ComponentLink3URL: http://www.national.com/packaging/folders/lda10a.html
footprint LDA10A (PSON, 10-Leads, Body 3x3mm, Pitch 0.5mm, NSC Recommended)
pins: 1 BRGT (in), 2 POUT (power), 3 C1- (in), 4 C1+ (in), 5 D2 (oc), 6 D1 (oc), 7 GND (power), 8 VIN (power), 9 SD/~{SD} (in), 10 ISET (in), 11 DAP (power)

## LM2793LD
designator U?
Low Noise White LED Constant Current Supply with Dual Function Brightness Control, 10-pin LLP; PartNumber: LM2793LD; Manufacturer: National Semiconductor; PackageTopMarking: ZXYTT*L2793; CompType: MiscPower; Published: 4-Dec-2008; DatasheetVersion: Feb-2003; PackageVersion: revB, Jan-2003; PackageReference: LDA10A; Publisher: Altium Limited; PackageDescription: LLP, Plastic, Dual, 3 x 3 x 0.75mm Body, 10 Lead, 0.5mm Pitch; RoHS: Y; PinCount: 10; ComponentLink1Description: LM2793 Datasheet; ComponentLink1URL: http://www.national.com/ds/LM/LM2793.pdf; ComponentLink2Description: LM2793 Web Page; ComponentLink2URL: http://www.national.com/pf/LM/LM2793.html; ComponentLink3Description: LDA10A Package Page; ComponentLink3URL: http://www.national.com/packaging/folders/lda10a.html
footprint LDA10A (PSON, 10-Leads, Body 3x3mm, Pitch 0.5mm, NSC Recommended)
pins: 1 VIN (power), 2 C1- (in), 3 C2+ (in), 4 C1+ (in), 5 POUT (power), 6 D1 (oc), 7 D2 (oc), 8 SD-BRGT (in), 9 GND (power), 10 C2- (in), 11 EP (power)

## LM2797MM-1.8
designator U?
120mA High Efficiency Step-Down Switched Capacitor Voltage Converter with Voltage Monitoring, 10-pin MSOP; PartNumber: LM2797MM-1.8; Manufacturer: National Semiconductor; PackageTopMarking: ZXTT*S80B; CompType: Switch Caps; Published: 4-Dec-2008; DatasheetVersion: Apr-2003; PackageVersion: revB, Jul-2003; PackageReference: MUB10A; Publisher: Altium Limited; PackageDescription: Mini-SO, Molded, .118 x .118 x .034in Body, 10 Lead, .0197in Pitch; Supplier 1: Farnell; Supplier Part Number 1: 1312700; RoHS: Y; PinCount: 10; Code_JEDEC: MO-187-BA; ComponentLink1Description: LM2797 Datasheet; ComponentLink1URL: http://www.national.com/ds/LM/LM2797.pdf; ComponentLink2Description: LM2797 Web Page; ComponentLink2URL: http://www.national.com/pf/LM/LM2797.html; ComponentLink3Description: MUB10A Package Page; ComponentLink3URL: http://www.national.com/packaging/folders/mub10a.html
footprint MUB10A_N (TSSOP, 10-Leads, Body 3x3mm, Pitch 0.5mm, IPC Medium Density)
footprint MUB10A_L (TSSOP, 10-Leads, Body 3x3mm, Pitch 0.5mm, IPC High Density)
footprint MUB10A_M (TSSOP, 10-Leads, Body 3x3mm, Pitch 0.5mm, IPC Low Density)
pins: 1 OUT (power), 2 C1- (in), 3 C1+ (in), 4 VIN (power), 5 POK (oc), 6 BATOK (oc), 7 EN (in), 8 C2+ (in), 9 GND (power), 10 C2- (in)

## LM2798MM-1.5
designator U?
120mA High Efficiency Step-Down Switched Capacitor Voltage Converter with Voltage Monitoring, 10-pin MSOP; PartNumber: LM2798MM-1.5; Manufacturer: National Semiconductor; PackageTopMarking: ZXTT*S56B; CompType: Switch Caps; Published: 4-Dec-2008; DatasheetVersion: Apr-2003; PackageVersion: revB, Jul-2003; PackageReference: MUB10A; Publisher: Altium Limited; PackageDescription: Mini-SO, Molded, .118 x .118 x .034in Body, 10 Lead, .0197in Pitch; Supplier 1: Farnell; Supplier Part Number 1: 1312701; RoHS: Y; PinCount: 10; Code_JEDEC: MO-187-BA; ComponentLink1Description: LM2798 Datasheet; ComponentLink1URL: http://www.national.com/ds/LM/LM2798.pdf; ComponentLink2Description: LM2798 Web Page; ComponentLink2URL: http://www.national.com/pf/LM/LM2798.html; ComponentLink3Description: MUB10A Package Page; ComponentLink3URL: http://www.national.com/packaging/folders/mub10a.html
footprint MUB10A_N (TSSOP, 10-Leads, Body 3x3mm, Pitch 0.5mm, IPC Medium Density)
footprint MUB10A_L (TSSOP, 10-Leads, Body 3x3mm, Pitch 0.5mm, IPC High Density)
footprint MUB10A_M (TSSOP, 10-Leads, Body 3x3mm, Pitch 0.5mm, IPC Low Density)
pins: 1 OUT (power), 2 C1- (in), 3 C1+ (in), 4 VIN (power), 5 POK (oc), 6 BATOK (oc), 7 EN (in), 8 C2+ (in), 9 GND (power), 10 C2- (in)

## LM2798MM-1.8
designator U?
120mA High Efficiency Step-Down Switched Capacitor Voltage Converter with Voltage Monitoring, 10-pin MSOP; PartNumber: LM2798MM-1.8; Manufacturer: National Semiconductor; PackageTopMarking: ZXTT*S57B; CompType: Switch Caps; Published: 4-Dec-2008; DatasheetVersion: Apr-2003; PackageVersion: revB, Jul-2003; PackageReference: MUB10A; Publisher: Altium Limited; PackageDescription: Mini-SO, Molded, .118 x .118 x .034in Body, 10 Lead, .0197in Pitch; Supplier 1: Farnell; Supplier Part Number 1: 1312702; RoHS: Y; PinCount: 10; Code_JEDEC: MO-187-BA; ComponentLink1Description: LM2798 Datasheet; ComponentLink1URL: http://www.national.com/ds/LM/LM2798.pdf; ComponentLink2Description: LM2798 Web Page; ComponentLink2URL: http://www.national.com/pf/LM/LM2798.html; ComponentLink3Description: MUB10A Package Page; ComponentLink3URL: http://www.national.com/packaging/folders/mub10a.html
footprint MUB10A_N (TSSOP, 10-Leads, Body 3x3mm, Pitch 0.5mm, IPC Medium Density)
footprint MUB10A_L (TSSOP, 10-Leads, Body 3x3mm, Pitch 0.5mm, IPC High Density)
footprint MUB10A_M (TSSOP, 10-Leads, Body 3x3mm, Pitch 0.5mm, IPC Low Density)
pins: 1 OUT (power), 2 C1- (in), 3 C1+ (in), 4 VIN (power), 5 POK (oc), 6 BATOK (oc), 7 EN (in), 8 C2+ (in), 9 GND (power), 10 C2- (in)

## LM2798MM-2.0
designator U?
120mA High Efficiency Step-Down Switched Capacitor Voltage Converter with Voltage Monitoring, 10-pin MSOP; PartNumber: LM2798MM-2.0; Manufacturer: National Semiconductor; PackageTopMarking: ZXTT*S58B; CompType: Switch Caps; Published: 4-Dec-2008; DatasheetVersion: Apr-2003; PackageVersion: revB, Jul-2003; PackageReference: MUB10A; Publisher: Altium Limited; PackageDescription: Mini-SO, Molded, .118 x .118 x .034in Body, 10 Lead, .0197in Pitch; Supplier 1: Farnell; Supplier Part Number 1: 1312705; RoHS: Y; PinCount: 10; Code_JEDEC: MO-187-BA; ComponentLink1Description: LM2798 Datasheet; ComponentLink1URL: http://www.national.com/ds/LM/LM2798.pdf; ComponentLink2Description: LM2798 Web Page; ComponentLink2URL: http://www.national.com/pf/LM/LM2798.html; ComponentLink3Description: MUB10A Package Page; ComponentLink3URL: http://www.national.com/packaging/folders/mub10a.html
footprint MUB10A_N (TSSOP, 10-Leads, Body 3x3mm, Pitch 0.5mm, IPC Medium Density)
footprint MUB10A_L (TSSOP, 10-Leads, Body 3x3mm, Pitch 0.5mm, IPC High Density)
footprint MUB10A_M (TSSOP, 10-Leads, Body 3x3mm, Pitch 0.5mm, IPC Low Density)
pins: 1 OUT (power), 2 C1- (in), 3 C1+ (in), 4 VIN (power), 5 POK (oc), 6 BATOK (oc), 7 EN (in), 8 C2+ (in), 9 GND (power), 10 C2- (in)

## LM2930S-5.0
designator U?
3-Terminal Positive Regulator, 3-pin TO-263; PartNumber: LM2930S-5.0; Manufacturer: National Semiconductor; PackageTopMarking: NSUZXYTTE#*LM2930S*-5.0 P+; CompType: LDO IC; Published: 4-Dec-2008; DatasheetVersion: Jun-2005; PackageVersion: revF, Apr-2005; PackageReference: TS3B; Publisher: Altium Limited; PackageDescription: TO-263, Molded, .400 x .390 x .180in, 3 Lead, .1in Pitch, Surface Mount; Supplier 1: Farnell; Supplier Part Number 1: 9494413; RoHS: Y; PinCount: 3; Code_JEDEC: MO-169-AA; ComponentLink1Description: LM2930 Datasheet; ComponentLink1URL: http://www.national.com/ds/LM/LM2930.pdf; ComponentLink2Description: LM2930 Web Page; ComponentLink2URL: http://www.national.com/pf/LM/LM2930.html; ComponentLink3Description: TS3B Package Page; ComponentLink3URL: http://www.national.com/packaging/folders/ts3b.html
footprint TS3B_N (D2-PAK, 4-Leads, Body 8.6x10.2mm, Pitch 2.54mm, Lead Span 14.2mm, IPC Medium Density)
footprint TS3B_L (D2-PAK, 4-Leads, Body 8.6x10.2mm, Pitch 2.54mm, Lead Span 14.2mm, IPC High Density)
footprint TS3B_M (D2-PAK, 4-Leads, Body 8.6x10.2mm, Pitch 2.54mm, Lead Span 14.2mm, IPC Low Density)
pins: 1 IN (power), 2 GND (power), 3 OUT (power), 4 TAB (power)

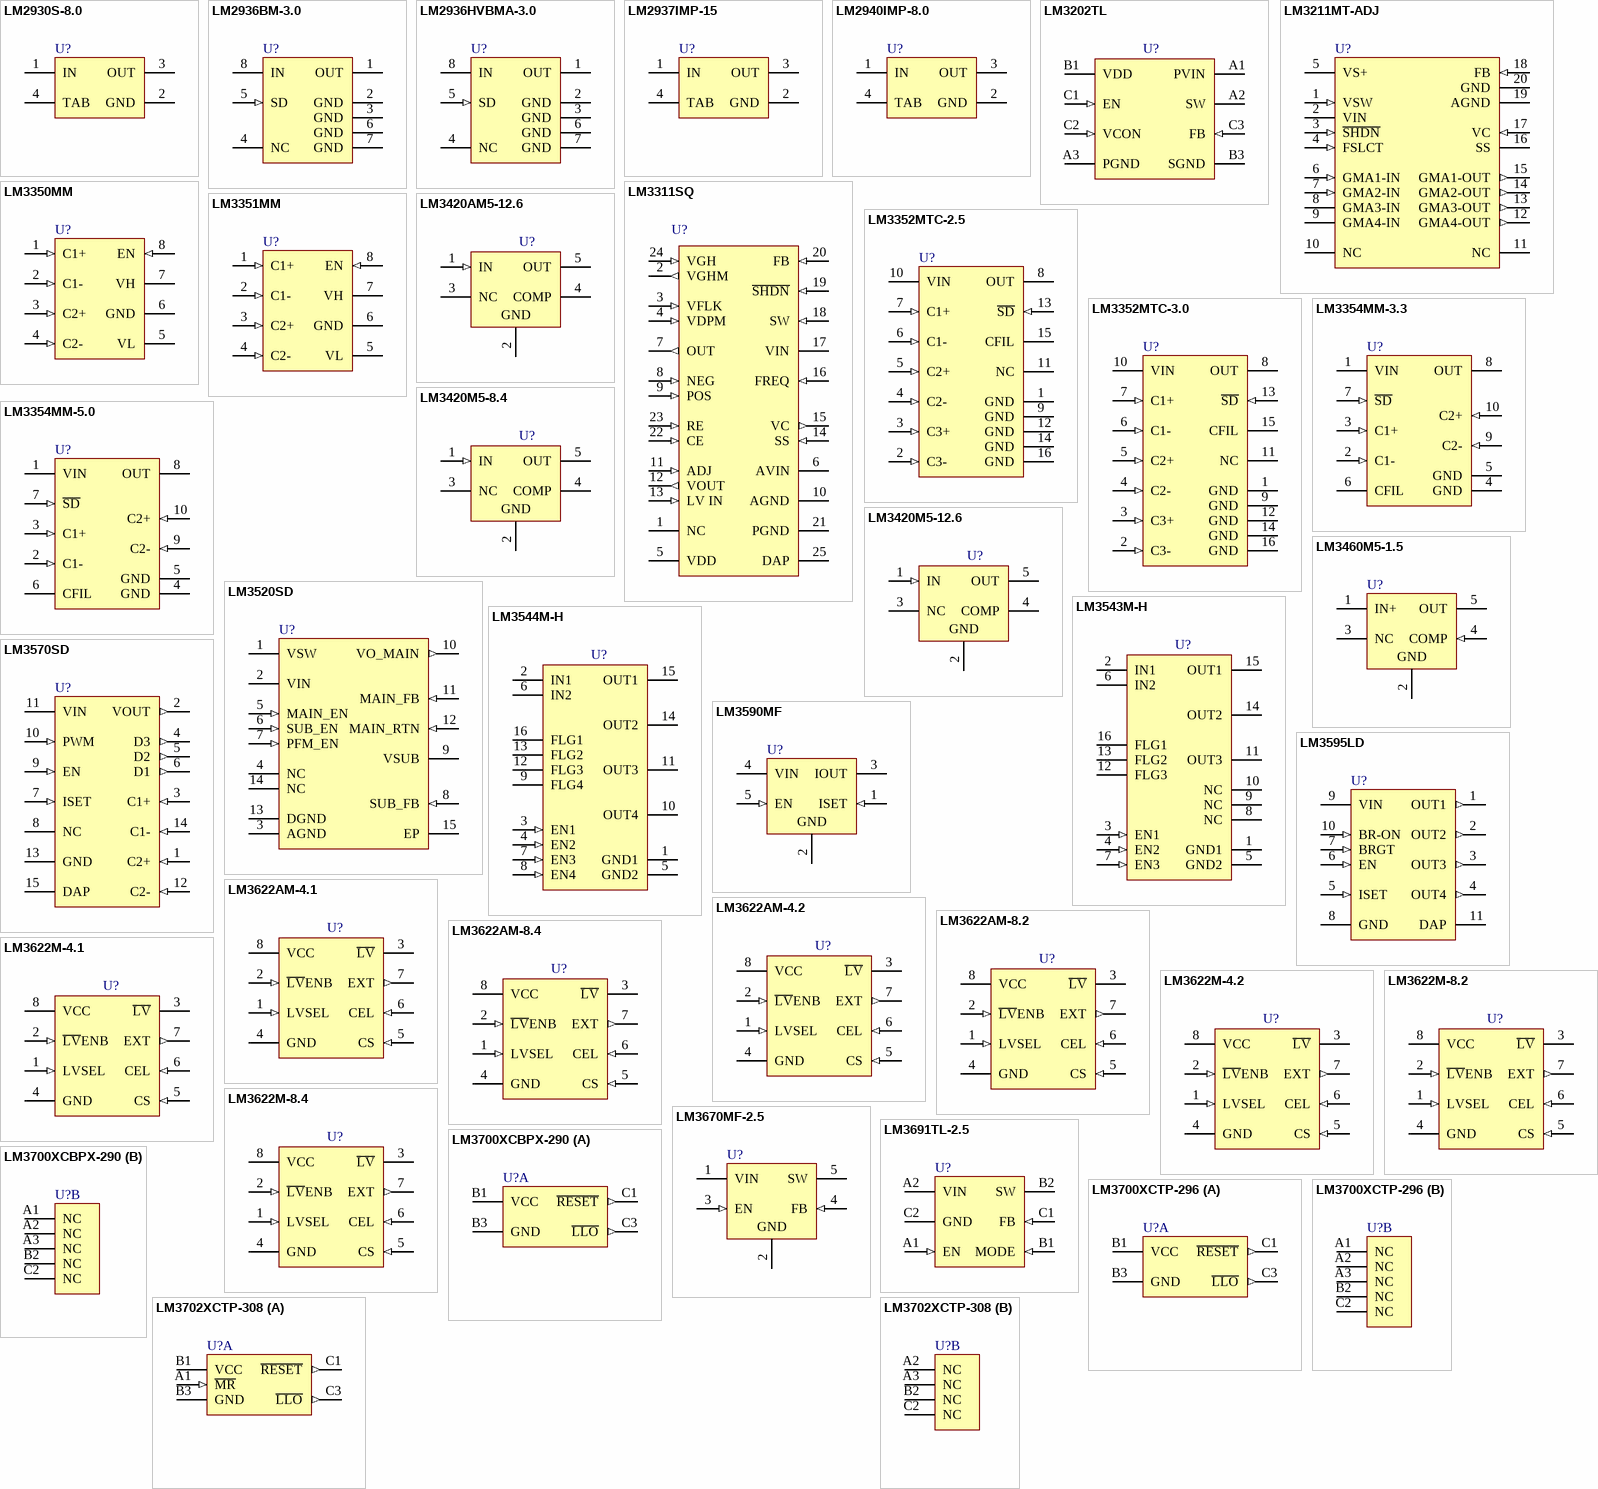
[diagram p9: symbols LM2930S-8.0 to LM3702XCTP-308]

## LM2930S-8.0
designator U?
3-Terminal Positive Regulator, 3-pin TO-263; PartNumber: LM2930S-8.0; Manufacturer: National Semiconductor; PackageTopMarking: NSUZXYTTE#*LM2930S*-8.0 P+; CompType: LDO IC; Published: 4-Dec-2008; DatasheetVersion: Jun-2005; PackageVersion: revF, Apr-2005; PackageReference: TS3B; Publisher: Altium Limited; PackageDescription: TO-263, Molded, .400 x .390 x .180in, 3 Lead, .1in Pitch, Surface Mount; Supplier 1: Farnell; Supplier Part Number 1: 953260; RoHS: Y; PinCount: 3; Code_JEDEC: MO-169-AA; ComponentLink1Description: LM2930 Datasheet; ComponentLink1URL: http://www.national.com/ds/LM/LM2930.pdf; ComponentLink2Description: LM2930 Web Page; ComponentLink2URL: http://www.national.com/pf/LM/LM2930.html; ComponentLink3Description: TS3B Package Page; ComponentLink3URL: http://www.national.com/packaging/folders/ts3b.html
footprint TS3B_N (D2-PAK, 4-Leads, Body 8.6x10.2mm, Pitch 2.54mm, Lead Span 14.2mm, IPC Medium Density)
footprint TS3B_L (D2-PAK, 4-Leads, Body 8.6x10.2mm, Pitch 2.54mm, Lead Span 14.2mm, IPC High Density)
footprint TS3B_M (D2-PAK, 4-Leads, Body 8.6x10.2mm, Pitch 2.54mm, Lead Span 14.2mm, IPC Low Density)
pins: 1 IN (power), 2 GND (power), 3 OUT (power), 4 TAB (power)

## LM2936BM-3.0
designator U?
Ultra-Low Quiescent Current LDO Voltage Regulator, 8-pin Narrow SOIC; PartNumber: LM2936BM-3.0; Manufacturer: National Semiconductor; PackageTopMarking: NSZXTT*LM293*6B3.0; CompType: LDO IC; Published: 4-Dec-2008; DatasheetVersion: Oct-2006; PackageVersion: revM, May-2009; PackageReference: M08A; Publisher: Altium Limited; PackageDescription: SOIC Narrow, 4.9 x 3.9 x 1.45mm, 8 Lead, 1.27mm Pitch; RoHS: Y; PinCount: 8; Code_JEDEC: MS-012-AA; Code_IPC: SOIC127P600-8; ComponentLink1Description: LM2936 Datasheet; ComponentLink1URL: http://www.national.com/ds/LM/LM2936.pdf; ComponentLink2Description: LM2936 Web Page; ComponentLink2URL: http://www.national.com/pf/LM/LM2936.html; ComponentLink3Description: M08A Package Page; ComponentLink3URL: http://www.national.com/packaging/folders/m08a.html
footprint M08A_N (SOIC, 8-Leads, Body 4.9x3.9mm, Pitch 1.27mm, IPC Medium Density)
footprint M08A_L (SOIC, 8-Leads, Body 4.9x3.9mm, Pitch 1.27mm, IPC High Density)
footprint M08A_M (SOIC, 8-Leads, Body 4.9x3.9mm, Pitch 1.27mm, IPC Low Density)
pins: 1 OUT (power), 2 GND (power), 3 GND (power), 4 NC, 5 SD (in), 6 GND (power), 7 GND (power), 8 IN (power)

## LM2936HVBMA-3.0
designator U?
Ultra-Low Quiescent Current LDO Voltage Regulator, 8-pin Narrow SOIC; PartNumber: LM2936HVBMA-3.0; Manufacturer: National Semiconductor; PackageTopMarking: NSZXTT*2936H*BM3.0; CompType: LDO IC; Published: 4-Dec-2008; DatasheetVersion: Oct-2006; PackageVersion: revM, May-2009; PackageReference: M08A; Publisher: Altium Limited; PackageDescription: SOIC Narrow, 4.9 x 3.9 x 1.45mm, 8 Lead, 1.27mm Pitch; Supplier 1: Farnell; Supplier Part Number 1: 1286865; RoHS: Y; PinCount: 8; Code_JEDEC: MS-012-AA; Code_IPC: SOIC127P600-8; ComponentLink1Description: LM2936 Datasheet; ComponentLink1URL: http://www.national.com/ds/LM/LM2936.pdf; ComponentLink2Description: LM2936 Web Page; ComponentLink2URL: http://www.national.com/pf/LM/LM2936.html; ComponentLink3Description: M08A Package Page; ComponentLink3URL: http://www.national.com/packaging/folders/m08a.html
footprint M08A_N (SOIC, 8-Leads, Body 4.9x3.9mm, Pitch 1.27mm, IPC Medium Density)
footprint M08A_L (SOIC, 8-Leads, Body 4.9x3.9mm, Pitch 1.27mm, IPC High Density)
footprint M08A_M (SOIC, 8-Leads, Body 4.9x3.9mm, Pitch 1.27mm, IPC Low Density)
pins: 1 OUT (power), 2 GND (power), 3 GND (power), 4 NC, 5 SD (in), 6 GND (power), 7 GND (power), 8 IN (power)

## LM2937IMP-15
designator U?
500 mA Low Dropout Regulator, 4-pin SOT-223; PartNumber: LM2937IMP-15; Manufacturer: National Semiconductor; PackageTopMarking: XYTT*L75B; CompType: LDO IC; Published: 4-Dec-2008; DatasheetVersion: Aug-2005; PackageVersion: revB, Apr-2003; PackageReference: MP04A; Publisher: Altium Limited; PackageDescription: Molded SOT-223, 6.50 x 3.56 x 1.6mm Body, 4 Lead, 2.3mm Pitch; RoHS: O; PinCount: 4; Code_JEDEC: TO-261-AA; Code_IPC: SOT223-4; ComponentLink1Description: LM2937 Datasheet; ComponentLink1URL: http://www.national.com/ds/LM/LM2937.pdf; ComponentLink2Description: LM2937 Web Page; ComponentLink2URL: http://www.national.com/pf/LM/LM2937.html; ComponentLink3Description: MP04A Package Page; ComponentLink3URL: http://www.national.com/packaging/folders/mp04a.html
footprint MP04A_N (SOT223, 4-Leads, Body 6.5x3.5mm, Pitch 2.3mm, Lead Span 7mm, IPC Medium Density)
footprint MP04A_L (SOT223, 4-Leads, Body 6.5x3.5mm, Pitch 2.3mm, Lead Span 7mm, IPC High Density)
footprint MP04A_M (SOT223, 4-Leads, Body 6.5x3.5mm, Pitch 2.3mm, Lead Span 7mm, IPC Low Density)
pins: 1 IN (power), 2 GND (power), 3 OUT (power), 4 TAB (power)

## LM2940IMP-8.0
designator U?
1A Low Dropout Regulator, 4-pin SOT-223; PartNumber: LM2940IMP-8.0; Manufacturer: National Semiconductor; PackageTopMarking: XYTT*L54B; CompType: LDO IC; Published: 4-Dec-2008; DatasheetVersion: Jan-2007; PackageVersion: revB, Apr-2003; PackageReference: MP04A; Publisher: Altium Limited; PackageDescription: Molded SOT-223, 6.50 x 3.56 x 1.6mm Body, 4 Lead, 2.3mm Pitch; RoHS: Y; PinCount: 4; Code_JEDEC: TO-261-AA; Code_IPC: SOT223-4; ComponentLink1Description: LM2940 Datasheet; ComponentLink1URL: http://www.national.com/ds/LM/LM2940.pdf; ComponentLink2Description: LM2940 Web Page; ComponentLink2URL: http://www.national.com/pf/LM/LM2940.html; ComponentLink3Description: MP04A Package Page; ComponentLink3URL: http://www.national.com/packaging/folders/mp04a.html
footprint MP04A_N (SOT223, 4-Leads, Body 6.5x3.5mm, Pitch 2.3mm, Lead Span 7mm, IPC Medium Density)
footprint MP04A_L (SOT223, 4-Leads, Body 6.5x3.5mm, Pitch 2.3mm, Lead Span 7mm, IPC High Density)
footprint MP04A_M (SOT223, 4-Leads, Body 6.5x3.5mm, Pitch 2.3mm, Lead Span 7mm, IPC Low Density)
pins: 1 IN (power), 2 GND (power), 3 OUT (power), 4 TAB (power)

## LM3202TL
designator U?
650mA Miniature, Adjustable, Step-Down DC-DC Converter for RF Power Amplifiers, 8-pin Micro SMD; PartNumber: LM3202TL; Manufacturer: National Semiconductor; PackageTopMarking: XVS*I 29; PowerWise: Y; CompType: MiscPower; Published: 4-Dec-2008; DatasheetVersion: Nov-2006; PackageVersion: revC, Jan-2004; PackageReference: TLA08HPA; Publisher: Altium Limited; PackageDescription: Thin Micro SMD, 8 Bump (Large), 0.5mm Pitch; Supplier 1: Farnell; Supplier Part Number 1: 1286872; RoHS: Y; PinCount: 8; Code_JEDEC: MO-211-DD; ComponentLink1Description: TLA08HPA Package Page; ComponentLink1URL: http://www.national.com/packaging/folders/tla08hpa.html
footprint TLA08HPA (Micro SMD, 8-Leads, Body 1.84x1.69mm, Pitch 0.5mm, NSC Recommended)
pins: A1 PVIN (power), A2 SW, A3 PGND (power), B1 VDD (power), B3 SGND (power), C1 EN (in), C2 VCON (in), C3 FB (in)